# EAGLE library part 62535020621 (library Wuerth_Elektronik_eiCan_Wire_to_Board_Connectors)
WR-BHD 2.00mm Male SMT Box Header High Temperature, 50 Pins=>Code : Con_WTB_BHD_2.00_Male_SMT_62535020621 <http://katalog.we-online.de/media/thumbs2/eican/thb_Con_WTB_BHD_2.00_Male_SMT_6253xx20621_pf2.jpg> Details see: http://katalog.we-online.de/en/em/625_3xx_206_21 Created 2014-06-05, Karrer Zheng 2014 (C) Würth Elektronik
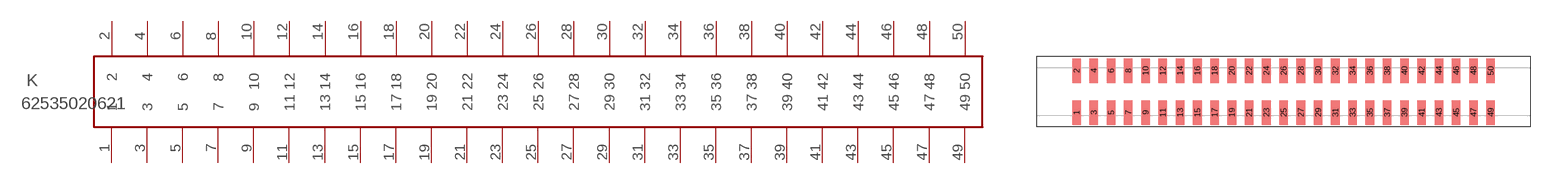
[diagram p274: symbol with the pads of 62535020621; footprint 62535020621]

Designator prefix K

## 62535020621  [62535020621]
1  1  pas
2  2  pas
3  3  pas
4  4  pas
5  5  pas
6  6  pas
7  7  pas
8  8  pas
9  9  pas
10  10  pas
11  11  pas
12  12  pas
13  13  pas
14  14  pas
15  15  pas
16  16  pas
17  17  pas
18  18  pas
19  19  pas
20  20  pas
21  21  pas
22  22  pas
23  23  pas
24  24  pas
25  25  pas
26  26  pas
27  27  pas
28  28  pas
29  29  pas
30  30  pas
31  31  pas
32  32  pas
33  33  pas
34  34  pas
35  35  pas
36  36  pas
37  37  pas
38  38  pas
39  39  pas
40  40  pas
41  41  pas
42  42  pas
43  43  pas
44  44  pas
45  45  pas
46  46  pas
47  47  pas
48  48  pas
49  49  pas
50  50  pas

## Footprint 62535020621 (pad centres in mm)
WRBHD-2.00mm Male SMT Box Header High Temperature,50 pins
smd 1 x 2.85: 1 -22,-2.425; 2 -22,2.425; 3 -20,-2.425; 4 -20,2.425; 5 -18,-2.425; 6 -18,2.425; 7 -16,-2.425; 8 -16,2.425; 9 -14,-2.425; 10 -14,2.425; 11 -12,-2.425; 12 -12,2.425; 13 -10,-2.425; 14 -10,2.425; 15 -8,-2.425; 16 -8,2.425; 17 -6,-2.425; 18 -6,2.425; 19 -4,-2.425; 20 -4,2.425; 21 -2,-2.425; 22 -2,2.425; 23 0,-2.425; 24 0,2.425; 25 2,-2.425; 26 2,2.425; 27 4,-2.425; 28 4,2.425; 29 6,-2.425; 30 6,2.425; 31 8,-2.425; 32 8,2.425; 33 10,-2.425; 34 10,2.425; 35 12,-2.425; 36 12,2.425; 37 14,-2.425; 38 14,2.425; 39 16,-2.425; 40 16,2.425; 41 18,-2.425; 42 18,2.425; 43 20,-2.425; 44 20,2.425; 45 22,-2.425; 46 22,2.425; 47 24,-2.425; 48 24,2.425; 49 26,-2.425; 50 26,2.425